# Altium schematic symbol library Schlib1.SchLib: 2 symbols
Pins are listed as number, name and electrical type; pins without a type are passive.

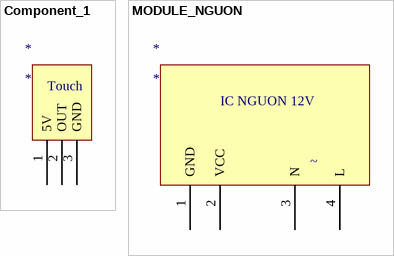
[diagram p0: symbols Component_1 to MODULE_NGUON]

## Component_1
designator *
footprint test
footprint test
pins: 1 5V, 2 OUT, 3 GND
text: Touch

## MODULE_NGUON
designator *
footprint NGUON_220_12
footprint NGUON_220_12
pins: 1 GND, 2 VCC, 3 N, 4 L
text: IC NGUON 12V; ~